# Altium schematic symbol library WE-MAPI_1610.SchLib: 9 symbols
Pins are listed as number, name and electrical type; pins without a type are passive.

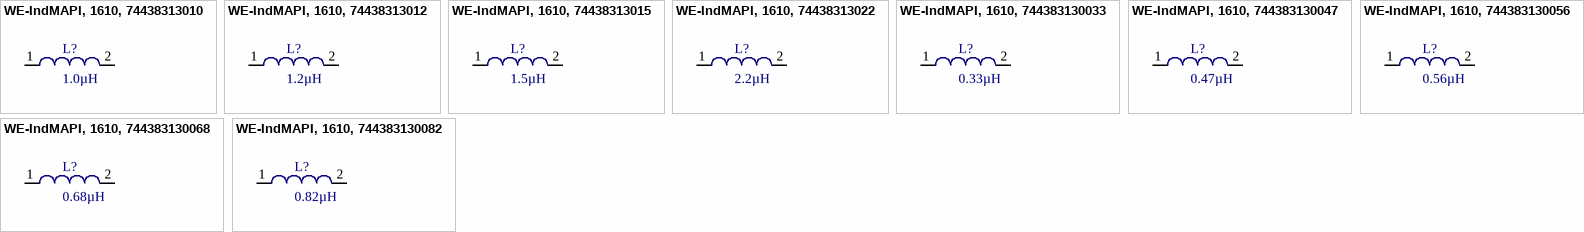
[diagram p0: symbols WE-IndMAPI, 1610, 74438313010 to WE-IndMAPI, 1610, 744383130082]

## WE-IndMAPI, 1610, 74438313010
designator L?, comment 1.0µH
SMD Power Inductor WE-IndMAPI, L=1.0µH; partNo: 74438313010; Manufacturer: Würth Elektronik eiSos GmbH; Inductance: 1.0µH; ComponentLink1Description: Manufacturer; ComponentLink1URL: http://www.we-online.de; Created by: Christin Zierenner; Created Date: Oct-2014; ComponentLink2Description: Datasheet; ComponentLink2URL: http://katalog.we-online.de/kataloge/eisos/media/pdf/74438313010.pdf
footprint WE-MAPI 1610 (SMD Inductor, 2-Leads, Body 1.6x 1.6mm,IPC Medium Density)
pins: 1, 2

## WE-IndMAPI, 1610, 74438313012
designator L?, comment 1.2µH
SMD Power Inductor WE-IndMAPI, L=1.2µH; partNo: 74438313012; Manufacturer: Würth Elektronik eiSos GmbH; Inductance: 1.2µH; ComponentLink1Description: Manufacturer; ComponentLink1URL: http://www.we-online.de; Created by: Christin Zierenner; Created Date: Oct-2014; ComponentLink2Description: Datasheet; ComponentLink2URL: http://katalog.we-online.de/kataloge/eisos/media/pdf/74438313012.pdf
footprint WE-MAPI 1610 (SMD Inductor, 2-Leads, Body 1.6x 1.6mm,IPC Medium Density)
pins: 1, 2

## WE-IndMAPI, 1610, 74438313015
designator L?, comment 1.5µH
SMD Power Inductor WE-IndMAPI, L=1.5µH; partNo: 74438313015; Manufacturer: Würth Elektronik eiSos GmbH; Inductance: 1.5µH; ComponentLink1Description: Manufacturer; ComponentLink1URL: http://www.we-online.de; Created by: Christin Zierenner; Created Date: Oct-2014; ComponentLink2Description: Datasheet; ComponentLink2URL: http://katalog.we-online.de/kataloge/eisos/media/pdf/74438313015.pdf
footprint WE-MAPI 1610 (SMD Inductor, 2-Leads, Body 1.6x 1.6mm,IPC Medium Density)
pins: 1, 2

## WE-IndMAPI, 1610, 74438313022
designator L?, comment 2.2µH
SMD Power Inductor WE-IndMAPI, L=2.2µH; partNo: 74438313022; Manufacturer: Würth Elektronik eiSos GmbH; Inductance: 2.2µH; ComponentLink1Description: Manufacturer; ComponentLink1URL: http://www.we-online.de; Created by: Christin Zierenner; Created Date: Oct-2014; ComponentLink2Description: Datasheet; ComponentLink2URL: http://katalog.we-online.de/kataloge/eisos/media/pdf/74438313022.pdf
footprint WE-MAPI 1610 (SMD Inductor, 2-Leads, Body 1.6x 1.6mm,IPC Medium Density)
pins: 1, 2

## WE-IndMAPI, 1610, 744383130033
designator L?, comment 0.33µH
SMD Power Inductor WE-IndMAPI, L=0.33µH; partNo: 744383130033; Manufacturer: Würth Elektronik eiSos GmbH; Inductance: 0.33µH; ComponentLink1Description: Manufacturer; ComponentLink1URL: http://www.we-online.de; Created by: Christin Zierenner; Created Date: Oct-2014; ComponentLink2Description: Datasheet; ComponentLink2URL: http://katalog.we-online.de/kataloge/eisos/media/pdf/744383130033.pdf
footprint WE-MAPI 1610 (SMD Inductor, 2-Leads, Body 1.6x 1.6mm,IPC Medium Density)
pins: 1, 2

## WE-IndMAPI, 1610, 744383130047
designator L?, comment 0.47µH
SMD Power Inductor WE-IndMAPI, L=0.47µH; partNo: 744383130047; Manufacturer: Würth Elektronik eiSos GmbH; Inductance: 0.47µH; ComponentLink1Description: Manufacturer; ComponentLink1URL: http://www.we-online.de; Created by: Christin Zierenner; Created Date: Oct-2014; ComponentLink2Description: Datasheet; ComponentLink2URL: http://katalog.we-online.de/kataloge/eisos/media/pdf/744383130047.pdf
footprint WE-MAPI 1610 (SMD Inductor, 2-Leads, Body 1.6x 1.6mm,IPC Medium Density)
pins: 1, 2

## WE-IndMAPI, 1610, 744383130056
designator L?, comment 0.56µH
SMD Power Inductor WE-IndMAPI, L=0.56µH; partNo: 744383130056; Manufacturer: Würth Elektronik eiSos GmbH; Inductance: 0.56µH; ComponentLink1Description: Manufacturer; ComponentLink1URL: http://www.we-online.de; Created by: Christin Zierenner; Created Date: Oct-2014; ComponentLink2Description: Datasheet; ComponentLink2URL: http://katalog.we-online.de/kataloge/eisos/media/pdf/744383130056.pdf
footprint WE-MAPI 1610 (SMD Inductor, 2-Leads, Body 1.6x 1.6mm,IPC Medium Density)
pins: 1, 2

## WE-IndMAPI, 1610, 744383130068
designator L?, comment 0.68µH
SMD Power Inductor WE-IndMAPI, L=0.68µH; partNo: 744383130068; Manufacturer: Würth Elektronik eiSos GmbH; Inductance: 0.68µH; ComponentLink1Description: Manufacturer; ComponentLink1URL: http://www.we-online.de; Created by: Christin Zierenner; Created Date: Oct-2014; ComponentLink2Description: Datasheet; ComponentLink2URL: http://katalog.we-online.de/kataloge/eisos/media/pdf/744383130068.pdf
footprint WE-MAPI 1610 (SMD Inductor, 2-Leads, Body 1.6x 1.6mm,IPC Medium Density)
pins: 1, 2

## WE-IndMAPI, 1610, 744383130082
designator L?, comment 0.82µH
SMD Power Inductor WE-IndMAPI, L=0.82µH; partNo: 744383130082; Manufacturer: Würth Elektronik eiSos GmbH; Inductance: 0.82µH; ComponentLink1Description: Manufacturer; ComponentLink1URL: http://www.we-online.de; Created by: Christin Zierenner; Created Date: Oct-2014; ComponentLink2Description: Datasheet; ComponentLink2URL: http://katalog.we-online.de/kataloge/eisos/media/pdf/744383130082.pdf
footprint WE-MAPI 1610 (SMD Inductor, 2-Leads, Body 1.6x 1.6mm,IPC Medium Density)
pins: 1, 2